# EAGLE library part BME280 (library Sensors)
BME280 - Pressure, Temp, Humidity Sensor
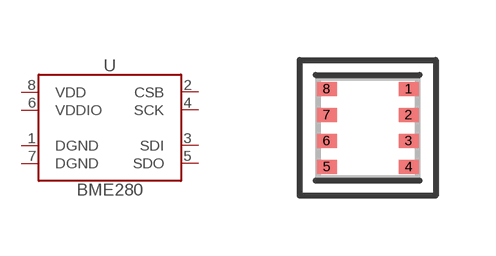
[diagram p4: symbol with the pads of BME280; footprint BME280]

Designator prefix U

## BME280 (SKU: 66-0007; VALUE: BME280)  [BME280]
1  DGND  pwr
2  CSB  in
3  SDI
4  SCK  in
5  SDO
6  VDDIO  pwr
7  DGND  pwr
8  VDD  pwr

## Footprint BME280 (pad centres in mm)
BME280
smd 0.5 x 0.35: 1 1.025,0.975; 2 1.025,0.325; 3 1.025,-0.325; 4 1.025,-0.975; 5 -1.025,-0.975; 6 -1.025,-0.325; 7 -1.025,0.325; 8 -1.025,0.975